# EAGLE library part MOTOR_DRIVER (library my-library)
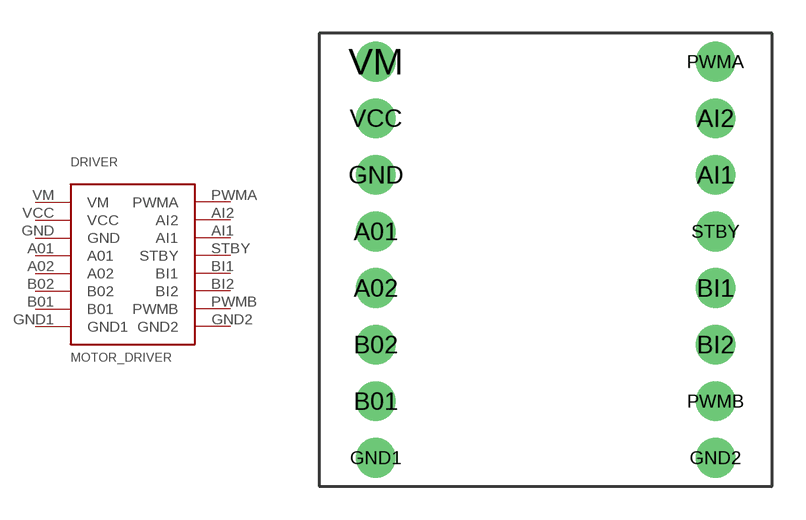
[diagram p1: symbol with the pads of MOTOR_DRIVER; footprint MOTOR_DRIVER]

Designator prefix DRIVER

## MOTOR_DRIVER  [MOTOR_DRIVER]
A01  A01
A02  A02
AI1  AI1
AI2  AI2
B01  B01
B02  B02
BI1  BI1
BI2  BI2
GND  GND
GND1  GND1
GND2  GND2
PWMA  PWMA
PWMB  PWMB
STBY  STBY
VCC  VCC
VM  VM

## Footprint MOTOR_DRIVER (pad centres in mm)
drill 1 pad 1.778: A01 2.54,11.43; A02 2.54,8.89; AI1 17.78,13.97; AI2 17.78,16.51; B01 2.54,3.81; B02 2.54,6.35; BI1 17.78,8.89; BI2 17.78,6.35; GND 2.54,13.97; GND1 2.54,1.27; GND2 17.78,1.27; PWMA 17.78,19.05; PWMB 17.78,3.81; STBY 17.78,11.43; VCC 2.54,16.51; VM 2.54,19.05